# EAGLE library part TALKIE_CH340G (library talkie)
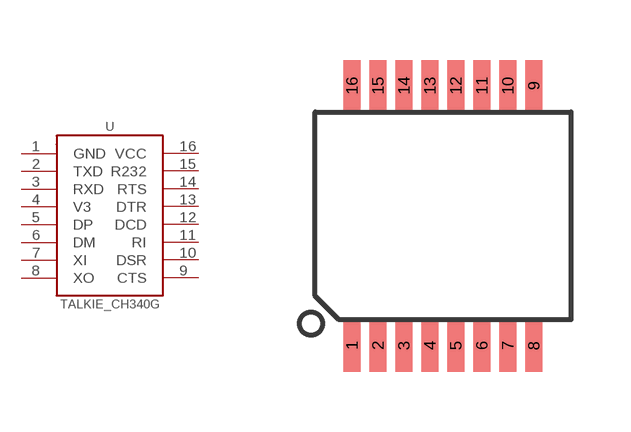
[diagram p4: symbol with the pads of TALKIE_16-SSOP; footprint TALKIE_16-SSOP]

Designator prefix -

## TALKIE_CH340G  [TALKIE_16-SSOP]
1  GND
2  TXD
3  RXD
4  V3
5  DP
6  DM
7  XI
8  XO
9  CTS
10  DSR
11  RI
12  DCD
13  DTR
14  RTS
15  R232
16  VCC

## Footprint TALKIE_16-SSOP (pad centres in mm)
smd 0.42 x 1.3: 1 -2.275,-3.25; 2 -1.625,-3.25; 3 -0.975,-3.25; 4 -0.325,-3.25; 5 0.325,-3.25; 6 0.975,-3.25; 7 1.625,-3.25; 8 2.275,-3.25; 9 2.275,3.25; 10 1.625,3.25; 11 0.975,3.25; 12 0.325,3.25; 13 -0.325,3.25; 14 -0.975,3.25; 15 -1.625,3.25; 16 -2.275,3.25